# Altium schematic symbol library CH340R.SchLib: 1 symbol
Pins are listed as number, name and electrical type; pins without a type are passive.

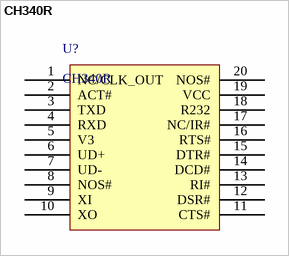
[diagram p0: symbol CH340R]

## CH340R
designator U?
footprint CH340R
pins: 1 NC/CLK_OUT, 2 ACT#, 3 TXD, 4 RXD, 5 V3, 6 UD+, 7 UD-, 8 NOS#, 9 XI, 10 XO, 11 CTS#, 12 DSR#, 13 RI#, 14 DCD#, 15 DTR#, 16 RTS#, 17 NC/IR#, 18 R232, 19 VCC, 20 NOS#